# Altium footprint library CNCTech.PcbLib: 2 footprints
Each footprint in its own frame and in the unit in brackets; x right, y up, seen from the top. Pads: shape width x height; smd on the part's side, far side on the other; paste and mask are expansions set on the pad; w line width, h text height; cw(c..) or ccw(c..) is an arc to the next point about the centre after c.
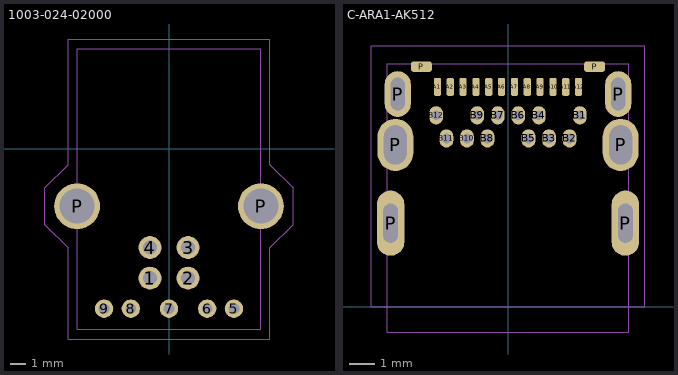
[diagram p0: the footprints below, top view; thin cyan lines are the x and y axes]

## 1003-024-02000 [mm]
pads (11):
  round 1.5 hole 0.92: 1(-1.25,-8.46) 2(1.25,-8.46) 3(1.25,-6.46) 4(-1.25,-6.46)
  round 1.2 hole 0.7: 5(4.25,-10.46) 6(2.5,-10.46) 7(0,-10.46) 8(-2.5,-10.46) 9(-4.25,-10.46)
  round 3 hole 2.3: P(-6.02,-3.75) P(6.02,-3.75)
Top Designator:
  text ".Designator" at -3.242,-0.317 h0.89
Top Courtyard:
  lines w0.025: -8.128,-4.953 -8.128,-2.547 -6.604,-1.023 -6.604,7.196 6.604,7.196 6.604,-1.023 8.128,-2.547 8.128,-4.953 6.604,-6.477 6.604,-12.446 -6.604,-12.446 -6.604,-6.477 -8.128,-4.953
Top Component Outline:
  lines w0.025: -6,-11.8 6,-11.8 6,6.55 -6,6.55 -6,-11.8
3D body "c-1932259-1-a1-3d.stp": height 13.2, standoff -4.36, extent -7.497,-11.8 7.497,6.55

## C-ARA1-AK512 [mm]
pads (32):
  rrect50% 0.284x0.7 smd mask+0.038: A1(-2.75,8.56) A2(-2.25,8.56) A3(-1.75,8.56) A4(-1.25,8.56) A5(-0.75,8.56) A6(-0.25,8.56) A7(0.25,8.56) A8(0.75,8.56) A9(1.25,8.56) A10(1.75,8.56) A11(2.25,8.56) A12(2.75,8.56)
  oval 0.533x0.711 hole 0.381 mask+0.051: B1(2.8,7.45) B2(2.4,6.55) B3(1.6,6.55) B4(1.2,7.45) B5(0.8,6.55) B6(0.4,7.45) B7(-0.4,7.45) B8(-0.8,6.55) B9(-1.2,7.45) B10(-1.6,6.55) B11(-2.4,6.55) B12(-2.8,7.45)
  oval 1.067x2.54 hole 0.559 slot 1.524 at 90 deg mask+0.051: P(-4.575,3.25) P(4.575,3.25)
  oval 1.397x2.032 hole 0.889 slot 1.524 at 90 deg mask+0.051: P(-4.39,6.3) P(4.39,6.3)
  oval 1.016x1.778 hole 0.559 slot 1.27 at 90 deg mask+0.051: P(-4.295,8.28) P(4.295,8.28)
  rrect50% 0.813x0.406 smd mask+0.038: P(-3.375,9.345) P(3.375,9.345)
Top Paste:
  drawing of 18 lines, arcs and shapes, not listed
Board:
  lines w0: -4.855,5.975 ccw(c-4.39,5.975) -4.39,5.51 ccw(c-4.39,5.975) -3.925,5.975 -3.925,6.625 ccw(c-4.39,6.625) -4.39,7.09 ccw(c-4.39,6.625) -4.855,6.625 -4.855,5.975 ; -4.85,2.725 ccw(c-4.575,2.725) -4.575,2.45 ccw(c-4.575,2.725) -4.3,2.725 -4.3,3.775 ccw(c-4.575,3.775) -4.575,4.05 ccw(c-4.575,3.775) -4.85,3.775 -4.85,2.725 ; -4.57,7.855 ccw(c-4.295,7.855) -4.295,7.58 ccw(c-4.295,7.855) -4.02,7.855 -4.02,8.705 ccw(c-4.295,8.705) -4.295,8.98 ccw(c-4.295,8.705) -4.57,8.705 -4.57,7.855 ; 3.925,5.975 ccw(c4.39,5.975) 4.39,5.51 ccw(c4.39,5.975) 4.855,5.975 4.855,6.625 ccw(c4.39,6.625) 4.39,7.09 ccw(c4.39,6.625) 3.925,6.625 3.925,5.975 ; 4.02,7.855 ccw(c4.295,7.855) 4.295,7.58 ccw(c4.295,7.855) 4.57,7.855 4.57,8.705 ccw(c4.295,8.705) 4.295,8.98 ccw(c4.295,8.705) 4.02,8.705 4.02,7.855 ; 4.3,2.725 ccw(c4.575,2.725) 4.575,2.45 ccw(c4.575,2.725) 4.85,2.725 4.85,3.775 ccw(c4.575,3.775) 4.575,4.05 ccw(c4.575,3.775) 4.3,3.775 4.3,2.725
Top Courtyard:
  lines w0.025: -5.334,0 -5.334,10.16 5.334,10.16 5.334,0 -5.334,0
Top Component Outline:
  lines w0.025: -4.7,-1 4.7,-1 4.7,0 4.7,9.47 -4.7,9.47 -4.7,0 -4.7,-1
Multi-Layer:
  region: 4.803,7.307 4.804,7.28 4.815,7.227 4.836,7.177 4.866,7.131 4.884,7.111 4.933,7.063 5.009,6.948 5.062,6.821 5.088,6.686 5.088,6.617 5.088,5.983 5.088,5.914 5.062,5.779 5.009,5.652 4.933,5.537 4.835,5.44 4.721,5.363 4.594,5.311 4.459,5.284 4.39,5.284 4.321,5.284 4.186,5.311 4.059,5.363 3.945,5.44 3.847,5.537 3.771,5.652 3.718,5.779 3.691,5.914 3.691,5.983 3.691,6.618 3.787,7.899 3.787,8.661 3.787,8.762 3.864,8.949 4.007,9.092 4.194,9.169 4.295,9.169 4.396,9.169 4.583,9.092 4.726,8.949 4.803,8.762 4.803,8.661
  region: -4.803,7.307 -4.804,7.28 -4.815,7.227 -4.836,7.177 -4.866,7.131 -4.884,7.111 -4.933,7.063 -5.009,6.948 -5.062,6.821 -5.088,6.686 -5.088,6.617 -5.088,5.983 -5.088,5.914 -5.062,5.779 -5.009,5.652 -4.933,5.537 -4.835,5.44 -4.721,5.363 -4.594,5.311 -4.459,5.284 -4.39,5.284 -4.321,5.284 -4.186,5.311 -4.059,5.363 -3.945,5.44 -3.847,5.537 -3.771,5.652 -3.718,5.779 -3.691,5.914 -3.691,5.983 -3.691,6.618 -3.787,7.899 -3.787,8.661 -3.787,8.762 -3.864,8.949 -4.007,9.092 -4.194,9.169 -4.295,9.169 -4.396,9.169 -4.583,9.092 -4.726,8.949 -4.803,8.762 -4.803,8.661
3D body "C-ARA-AK512.stp": height 5.79, standoff -1.39, extent -4.7,-1 4.7,9.47